# Altium integrated library Wurth_Elektronik_Passive_rev16a.IntLib: 1143 symbols (part 8 of 28)
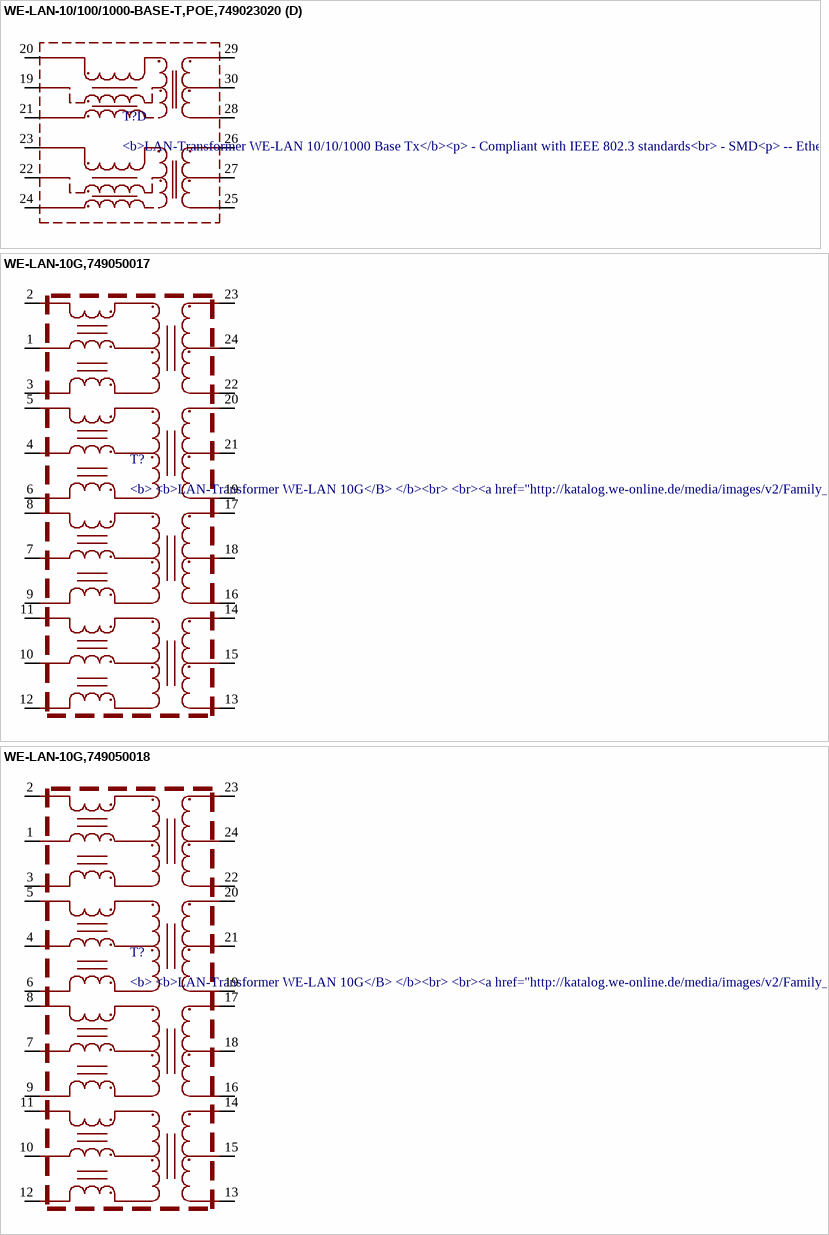
[diagram p65: symbols WE-LAN-10/100/1000-BASE-T,POE,749023020 to WE-LAN-10G,749050018]

## WE-LAN-10G,749050018
designator T?, comment <b> / <b>LAN-Transformer WE-LAN 10G</B> / </b><br> / <br><a href="http://katalog.we-online.de/media/images/v2/Family_WE-LAN.jpg" title="Enlarge picture"> / <img src="http://katalog.we-online.de/media/images/v2/Family_WE-LAN.jpg"  width="320"></a><p> / </b><br> / Details see: <a href="http://katalog.we-online.de/en/pbs/WE-LAN/749050018?m">http://katalog.we-online.de/en/pbs/WE-LAN/749050018?m</a><p> / <b><br> / <br> / 2015 (C) Würth Elektronik
footprint WE-LAN10G:0.99MM
pins: 1 TCT1, 2 TD1+, 3 TD1-, 4 TCT2, 5 TD2+, 6 TD2-, 7 TCT3, 8 TD3+, 9 TD3-, 10 TCT4, 11 TD4+, 12 TD4-, 13 MX4-, 14 MX4+, 15 MCT4, 16 MX3-, 17 MX3+, 18 MCT3, 19 MX2-, 20 MX2+, 21 MCT2, 22 MX1-, 23 MX1+, 24 MCT1

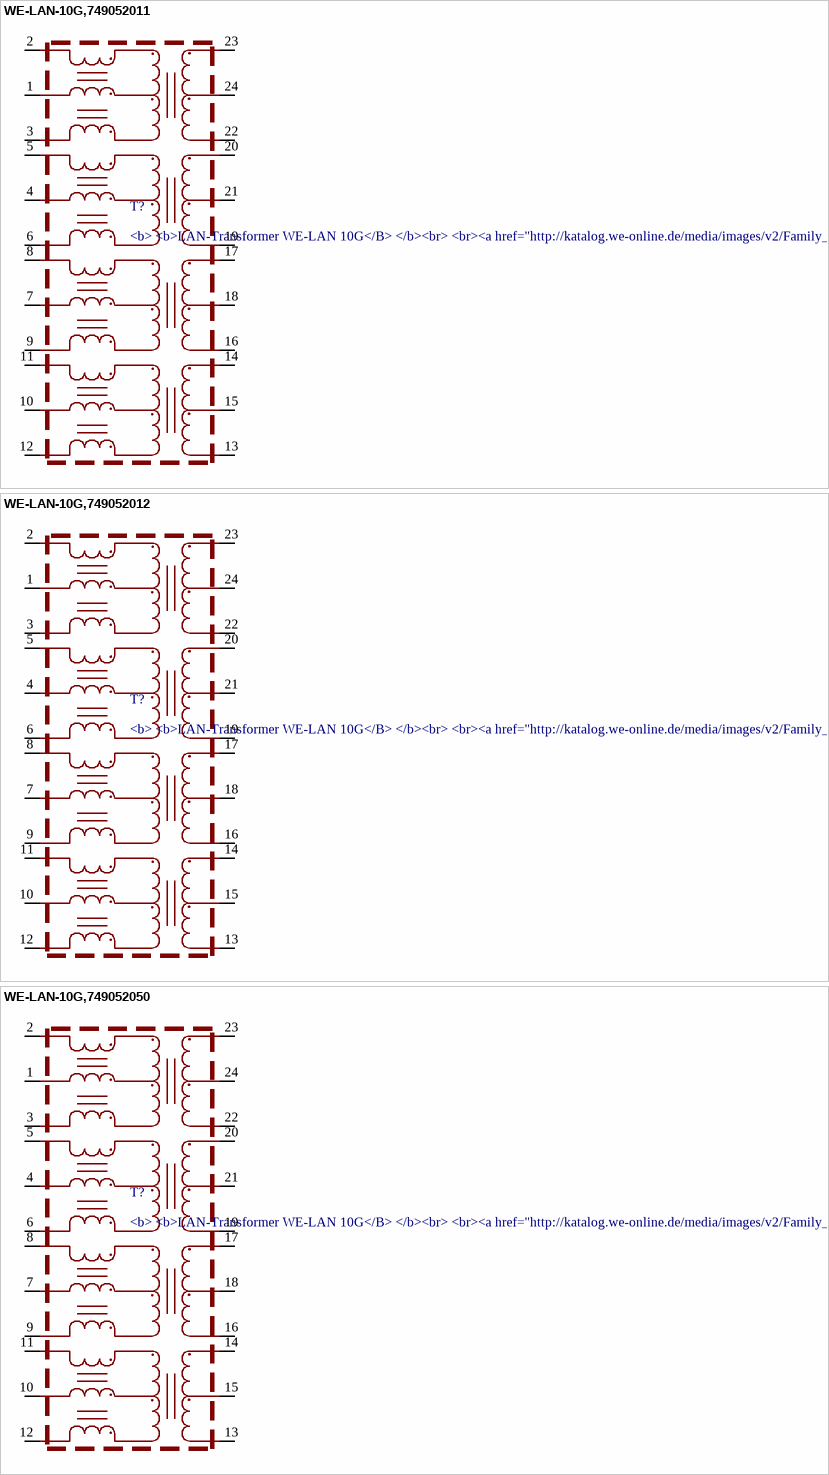
[diagram p19: symbols WE-LAN-10G,749052011 to WE-LAN-10G,749052050]

## WE-LAN-10G,749052011
designator T?, comment <b> / <b>LAN-Transformer WE-LAN 10G</B> / </b><br> / <br><a href="http://katalog.we-online.de/media/images/v2/Family_WE-LAN.jpg" title="Enlarge picture"> / <img src="http://katalog.we-online.de/media/images/v2/Family_WE-LAN.jpg"  width="320"></a><p> / </b><br> / Details see: <a href="http://katalog.we-online.de/en/pbs/WE-LAN/749052011?m">http://katalog.we-online.de/en/pbs/WE-LAN/749052011?m</a><p> / <b><br> / <br> / 2015 (C) Würth Elektronik
footprint WE-LAN10G1.27MM
pins: 1 TCT1, 2 TD1+, 3 TD1-, 4 TCT2, 5 TD2+, 6 TD2-, 7 TCT3, 8 TD3+, 9 TD3-, 10 TCT4, 11 TD4+, 12 TD4-, 13 MX4-, 14 MX4+, 15 MCT4, 16 MX3-, 17 MX3+, 18 MCT3, 19 MX2-, 20 MX2+, 21 MCT2, 22 MX1-, 23 MX1+, 24 MCT1

## WE-LAN-10G,749052012
designator T?, comment <b> / <b>LAN-Transformer WE-LAN 10G</B> / </b><br> / <br><a href="http://katalog.we-online.de/media/images/v2/Family_WE-LAN.jpg" title="Enlarge picture"> / <img src="http://katalog.we-online.de/media/images/v2/Family_WE-LAN.jpg"  width="320"></a><p> / </b><br> / Details see: <a href="http://katalog.we-online.de/en/pbs/WE-LAN/749052012?m">http://katalog.we-online.de/en/pbs/WE-LAN/749052012?m</a><p> / <b><br> / <br> / 2015 (C) Würth Elektronik
footprint WE-LAN10G:0.99MM
pins: 1 TCT1, 2 TD1+, 3 TD1-, 4 TCT2, 5 TD2+, 6 TD2-, 7 TCT3, 8 TD3+, 9 TD3-, 10 TCT4, 11 TD4+, 12 TD4-, 13 MX4-, 14 MX4+, 15 MCT4, 16 MX3-, 17 MX3+, 18 MCT3, 19 MX2-, 20 MX2+, 21 MCT2, 22 MX1-, 23 MX1+, 24 MCT1

## WE-LAN-10G,749052050
designator T?, comment <b> / <b>LAN-Transformer WE-LAN 10G</B> / </b><br> / <br><a href="http://katalog.we-online.de/media/images/v2/Family_WE-LAN.jpg" title="Enlarge picture"> / <img src="http://katalog.we-online.de/media/images/v2/Family_WE-LAN.jpg"  width="320"></a><p> / </b><br> / Details see: <a href="http://katalog.we-online.de/en/pbs/WE-LAN/749052050?m">http://katalog.we-online.de/en/pbs/WE-LAN/749052050?m</a><p> / <b><br> / <br> / 2015 (C) Würth Elektronik
footprint WE-LAN10G1.27MM
pins: 1 TCT1, 2 TD1+, 3 TD1-, 4 TCT2, 5 TD2+, 6 TD2-, 7 TCT3, 8 TD3+, 9 TD3-, 10 TCT4, 11 TD4+, 12 TD4-, 13 MX4-, 14 MX4+, 15 MCT4, 16 MX3-, 17 MX3+, 18 MCT3, 19 MX2-, 20 MX2+, 21 MCT2, 22 MX1-, 23 MX1+, 24 MCT1

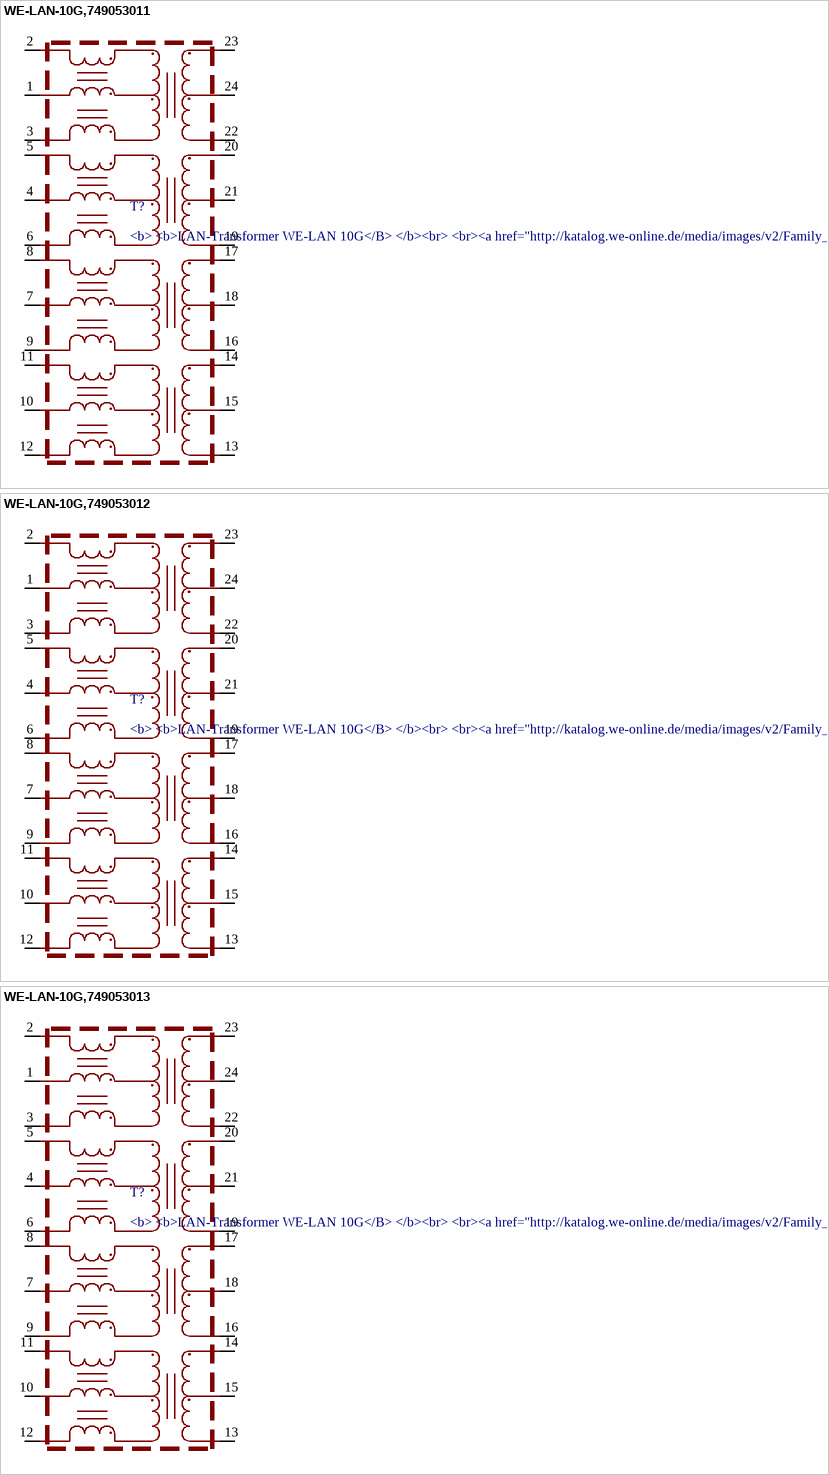
[diagram p20: symbols WE-LAN-10G,749053011 to WE-LAN-10G,749053013]

## WE-LAN-10G,749053011
designator T?, comment <b> / <b>LAN-Transformer WE-LAN 10G</B> / </b><br> / <br><a href="http://katalog.we-online.de/media/images/v2/Family_WE-LAN.jpg" title="Enlarge picture"> / <img src="http://katalog.we-online.de/media/images/v2/Family_WE-LAN.jpg"  width="320"></a><p> / </b><br> / Details see: <a href="http://katalog.we-online.de/en/pbs/WE-LAN/749053011?m">http://katalog.we-online.de/en/pbs/WE-LAN/749053011?m</a><p> / <b><br> / <br> / 2015 (C) Würth Elektronik
footprint WE-LAN10G:0.99MM
pins: 1 TCT1, 2 TD1+, 3 TD1-, 4 TCT2, 5 TD2+, 6 TD2-, 7 TCT3, 8 TD3+, 9 TD3-, 10 TCT4, 11 TD4+, 12 TD4-, 13 MX4-, 14 MX4+, 15 MCT4, 16 MX3-, 17 MX3+, 18 MCT3, 19 MX2-, 20 MX2+, 21 MCT2, 22 MX1-, 23 MX1+, 24 MCT1

## WE-LAN-10G,749053012
designator T?, comment <b> / <b>LAN-Transformer WE-LAN 10G</B> / </b><br> / <br><a href="http://katalog.we-online.de/media/images/v2/Family_WE-LAN.jpg" title="Enlarge picture"> / <img src="http://katalog.we-online.de/media/images/v2/Family_WE-LAN.jpg"  width="320"></a><p> / </b><br> / Details see: <a href="http://katalog.we-online.de/en/pbs/WE-LAN/749053012?m">http://katalog.we-online.de/en/pbs/WE-LAN/749053012?m</a><p> / <b><br> / <br> / 2015 (C) Würth Elektronik
footprint WE-LAN10G:0.99MM
pins: 1 TCT1, 2 TD1+, 3 TD1-, 4 TCT2, 5 TD2+, 6 TD2-, 7 TCT3, 8 TD3+, 9 TD3-, 10 TCT4, 11 TD4+, 12 TD4-, 13 MX4-, 14 MX4+, 15 MCT4, 16 MX3-, 17 MX3+, 18 MCT3, 19 MX2-, 20 MX2+, 21 MCT2, 22 MX1-, 23 MX1+, 24 MCT1

## WE-LAN-10G,749053013
designator T?, comment <b> / <b>LAN-Transformer WE-LAN 10G</B> / </b><br> / <br><a href="http://katalog.we-online.de/media/images/v2/Family_WE-LAN.jpg" title="Enlarge picture"> / <img src="http://katalog.we-online.de/media/images/v2/Family_WE-LAN.jpg"  width="320"></a><p> / </b><br> / Details see: <a href="http://katalog.we-online.de/en/pbs/WE-LAN/749053013?m">http://katalog.we-online.de/en/pbs/WE-LAN/749053013?m</a><p> / <b><br> / <br> / 2015 (C) Würth Elektronik
footprint WE-LAN10G:0.99MM
pins: 1 TCT1, 2 TD1+, 3 TD1-, 4 TCT2, 5 TD2+, 6 TD2-, 7 TCT3, 8 TD3+, 9 TD3-, 10 TCT4, 11 TD4+, 12 TD4-, 13 MX4-, 14 MX4+, 15 MCT4, 16 MX3-, 17 MX3+, 18 MCT3, 19 MX2-, 20 MX2+, 21 MCT2, 22 MX1-, 23 MX1+, 24 MCT1

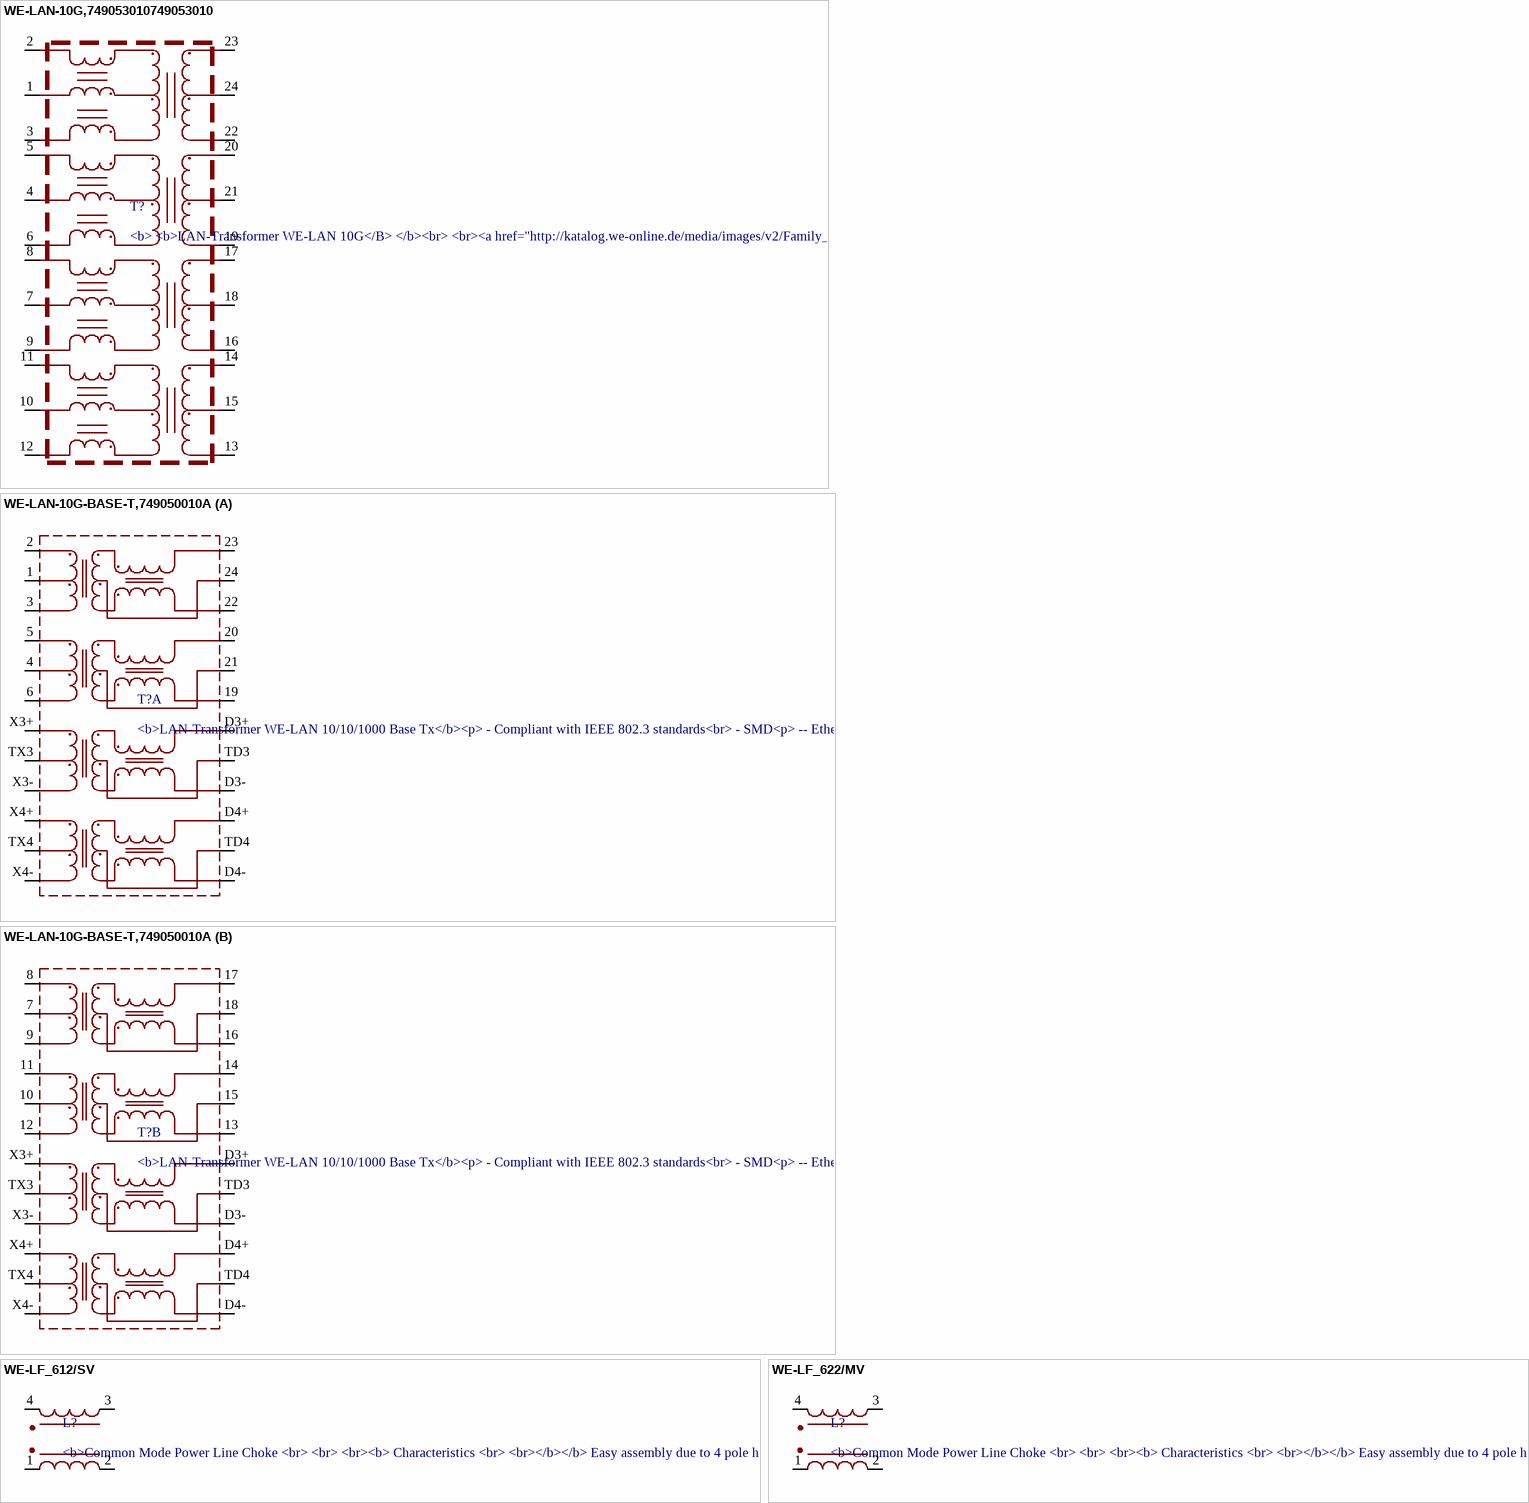
[diagram p21: symbols WE-LAN-10G,749053010749053010 to WE-LF_622/MV]

## WE-LAN-10G,749053010749053010
designator T?, comment <b> / <b>LAN-Transformer WE-LAN 10G</B> / </b><br> / <br><a href="http://katalog.we-online.de/media/images/v2/Family_WE-LAN.jpg" title="Enlarge picture"> / <img src="http://katalog.we-online.de/media/images/v2/Family_WE-LAN.jpg"  width="320"></a><p> / </b><br> / Details see: <a href="http://katalog.we-online.de/en/pbs/WE-LAN/749053010?m">http://katalog.we-online.de/en/pbs/WE-LAN/749053010?m</a><p> / <b><br> / <br> / 2015 (C) Würth Elektronik
footprint WE-LAN10G:0.99MM
pins: 1 TCT1, 2 TD1+, 3 TD1-, 4 TCT2, 5 TD2+, 6 TD2-, 7 TCT3, 8 TD3+, 9 TD3-, 10 TCT4, 11 TD4+, 12 TD4-, 13 MX4-, 14 MX4+, 15 MCT4, 16 MX3-, 17 MX3+, 18 MCT3, 19 MX2-, 20 MX2+, 21 MCT2, 22 MX1-, 23 MX1+, 24 MCT1

## WE-LAN-10G-BASE-T,749050010A
designator T?, comment <b>LAN-Transformer WE-LAN 10/10/1000 Base Tx</b><p> / - Compliant with IEEE 802.3 standards<br> / - SMD<p> / -- Ethernet<br> / -- Power over Ethernet<br> / -- 10 Gigabit Ethernet<br> / -- Compliant with most IC's for ethernet applications like Intel, AMD, Globespan and Realtek<br> / -- Hub, Router, Switch / <br><a href=http://katalog.we-online.de/media/images/eisos/UtLAN_pf2.jpg" title="Enlarge picture"> / <img src="http://katalog.we-online.de/media/images/eisos/UtLAN_pf2.jpg" width="320"></a><p> / Details see: <a href="http://katalog.we-online.de/en/pbs/WE-LAN/S/749050010A?">http://katalog.we-online.de/en/pbs/WE-LAN/S/749050010A?</a><p> / Updated by  Dan Xu 2014-07-08<br> / 2014 (C) Würth Elektronik
MANUFACTURER: Würth Elektronik eiSos GmbH; CREATED-BY: Christin Zierenner; COMPANY-URL: http://www.we-online.de; CREATED-DATE: June 2012; DATASHEET-URL: http://katalog.we-online.de/kataloge/eisos/media/pdf/749050010A.pdf
footprint 749050010A
part A pins: 1 TX1, 2 X1+, 3 X1-, 4 TX2, 5 X2+, 6 X2-, 19 D2-, 20 D2+, 21 TD2, 22 D1-, 23 D1+, 24 TD1, D3+, D3-, D4+, D4-, TD3, TD4, TX3, TX4, X3+, X3-, X4+, X4-
part B pins: 7 TX1, 8 X1+, 9 X1-, 10 TX2, 11 X2+, 12 X2-, 13 D2-, 14 D2+, 15 TD2, 16 D1-, 17 D1+, 18 TD1, D3+, D3-, D4+, D4-, TD3, TD4, TX3, TX4, X3+, X3-, X4+, X4-

## WE-LF_612/SV
designator L?, comment <b>Common Mode Power Line Choke / <br> / <br> / <br><b> Characteristics / <br> / <br></b></b> Easy assembly due to 4 pole housing / <br> / <br> Compact, small size / <br> / <br> 4 soldering pins for perfect mechanical decoupling / <br> / <br> Toroidal core choke with sector winding / <br> / <br> High interference suppression for common mode interferences in low and middle frequency ranges / <br> / <br> Low stray field / <br> / <br> Operating temperature: –25 ºC to +125 ºC / <br> / <br> Custom designs on request / <br> / <br> / <br><b> Applications / <br> / <br></b> Power line filter / <br> / <br> Power electronics / <br> / <br> SMPS / <br> / <br> Suppression of common mode noise / <br> / <br> / <br><a href=http://katalog.we-online.de/media/images/eisos/IndLF_pf2.jpg" title="Enlarge picture"> / <img src="http://katalog.we-online.de/media/images/eisos/IndLF_pf2.jpg" width="320"></a><p> / Details see: <a href="http://katalog.we-online.de/en/pbs/WE-LF?">http://katalog.we-online.de/en/pbs/WE-LF?</a><p> / Updated by  Dan Xu 2014-07-08<br> / 2014 (C) Wurth Elektronik
footprint WE-LF_612/SV
pins: 1 4, 2 3, 3 2, 4 1

## WE-LF_622/MV
designator L?, comment <b>Common Mode Power Line Choke / <br> / <br> / <br><b> Characteristics / <br> / <br></b></b> Easy assembly due to 4 pole housing / <br> / <br> Compact, small size / <br> / <br> 4 soldering pins for perfect mechanical decoupling / <br> / <br> Toroidal core choke with sector winding / <br> / <br> High interference suppression for common mode interferences in low and middle frequency ranges / <br> / <br> Low stray field / <br> / <br> Operating temperature: –25 ºC to +125 ºC / <br> / <br> Custom designs on request / <br> / <br> / <br><b> Applications / <br> / <br></b> Power line filter / <br> / <br> Power electronics / <br> / <br> SMPS / <br> / <br> Suppression of common mode noise / <br> / <br> / <br><a href=http://katalog.we-online.de/media/images/eisos/IndLF_pf2.jpg" title="Enlarge picture"> / <img src="http://katalog.we-online.de/media/images/eisos/IndLF_pf2.jpg" width="320"></a><p> / Details see: <a href="http://katalog.we-online.de/en/pbs/WE-LF?">http://katalog.we-online.de/en/pbs/WE-LF?</a><p> / Updated by  Dan Xu 2014-07-08<br> / 2014 (C) Wurth Elektronik
footprint WE-LF_622/MV
pins: 1 4, 2 3, 3 2, 4 1

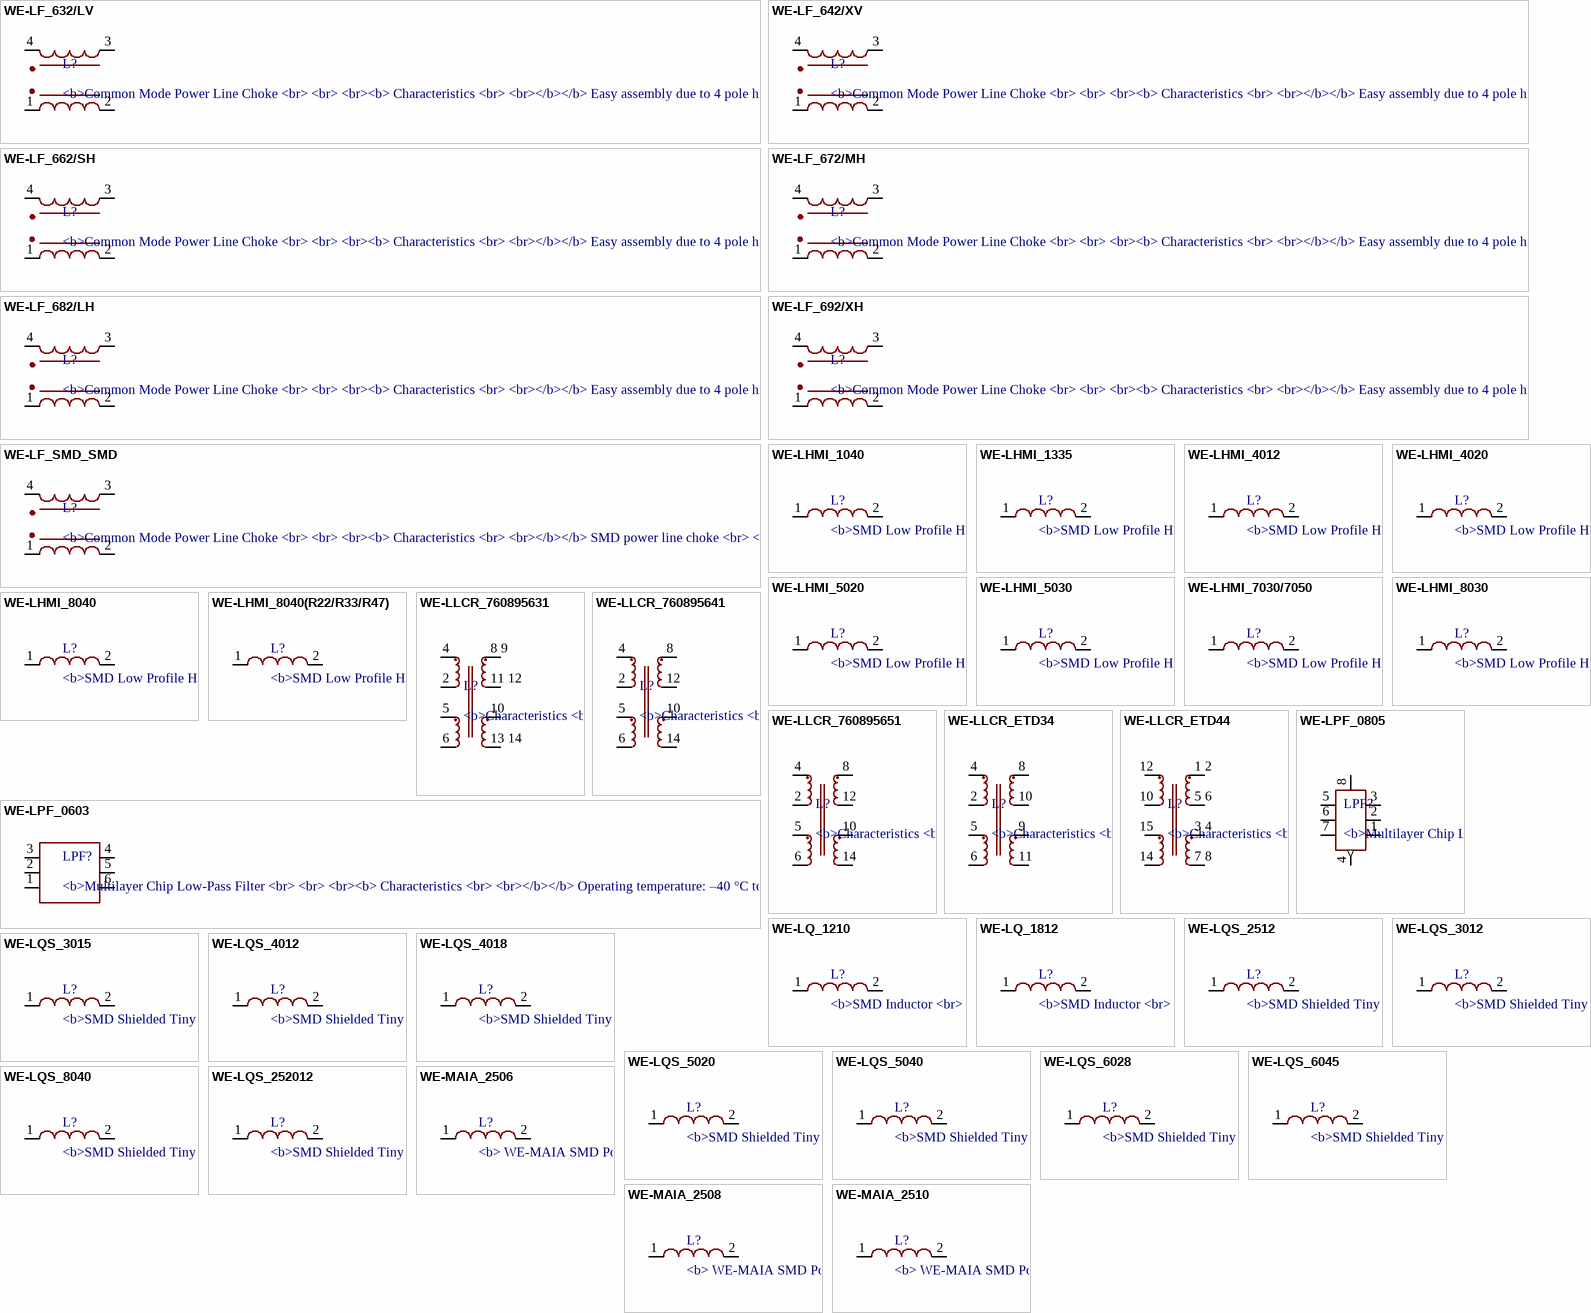
[diagram p22: symbols WE-LF_632/LV to WE-MAIA_2510]

## WE-LF_632/LV
designator L?, comment <b>Common Mode Power Line Choke / <br> / <br> / <br><b> Characteristics / <br> / <br></b></b> Easy assembly due to 4 pole housing / <br> / <br> Compact, small size / <br> / <br> 4 soldering pins for perfect mechanical decoupling / <br> / <br> Toroidal core choke with sector winding / <br> / <br> High interference suppression for common mode interferences in low and middle frequency ranges / <br> / <br> Low stray field / <br> / <br> Operating temperature: –25 ºC to +125 ºC / <br> / <br> Custom designs on request / <br> / <br> / <br><b> Applications / <br> / <br></b> Power line filter / <br> / <br> Power electronics / <br> / <br> SMPS / <br> / <br> Suppression of common mode noise / <br> / <br> / <br><a href=http://katalog.we-online.de/media/images/eisos/IndLF_pf2.jpg" title="Enlarge picture"> / <img src="http://katalog.we-online.de/media/images/eisos/IndLF_pf2.jpg" width="320"></a><p> / Details see: <a href="http://katalog.we-online.de/en/pbs/WE-LF?">http://katalog.we-online.de/en/pbs/WE-LF?</a><p> / Updated by  Dan Xu 2014-07-08<br> / 2014 (C) Wurth Elektronik
footprint WE-LF_632/LV
pins: 1 4, 2 3, 3 2, 4 1

## WE-LF_642/XV
designator L?, comment <b>Common Mode Power Line Choke / <br> / <br> / <br><b> Characteristics / <br> / <br></b></b> Easy assembly due to 4 pole housing / <br> / <br> Compact, small size / <br> / <br> 4 soldering pins for perfect mechanical decoupling / <br> / <br> Toroidal core choke with sector winding / <br> / <br> High interference suppression for common mode interferences in low and middle frequency ranges / <br> / <br> Low stray field / <br> / <br> Operating temperature: –25 ºC to +125 ºC / <br> / <br> Custom designs on request / <br> / <br> / <br><b> Applications / <br> / <br></b> Power line filter / <br> / <br> Power electronics / <br> / <br> SMPS / <br> / <br> Suppression of common mode noise / <br> / <br> / <br><a href=http://katalog.we-online.de/media/images/eisos/IndLF_pf2.jpg" title="Enlarge picture"> / <img src="http://katalog.we-online.de/media/images/eisos/IndLF_pf2.jpg" width="320"></a><p> / Details see: <a href="http://katalog.we-online.de/en/pbs/WE-LF?">http://katalog.we-online.de/en/pbs/WE-LF?</a><p> / Updated by  Dan Xu 2014-07-08<br> / 2014 (C) Wurth Elektronik
footprint WE-LF_642/XV
pins: 1 4, 2 3, 3 2, 4 1

## WE-LF_662/SH
designator L?, comment <b>Common Mode Power Line Choke / <br> / <br> / <br><b> Characteristics / <br> / <br></b></b> Easy assembly due to 4 pole housing / <br> / <br> Compact, small size / <br> / <br> 4 soldering pins for perfect mechanical decoupling / <br> / <br> Toroidal core choke with sector winding / <br> / <br> High interference suppression for common mode interferences in low and middle frequency ranges / <br> / <br> Low stray field / <br> / <br> Operating temperature: –25 ºC to +125 ºC / <br> / <br> Custom designs on request / <br> / <br> / <br><b> Applications / <br> / <br></b> Power line filter / <br> / <br> Power electronics / <br> / <br> SMPS / <br> / <br> Suppression of common mode noise / <br> / <br> / <br><a href=http://katalog.we-online.de/media/images/eisos/IndLF_pf2.jpg" title="Enlarge picture"> / <img src="http://katalog.we-online.de/media/images/eisos/IndLF_pf2.jpg" width="320"></a><p> / Details see: <a href="http://katalog.we-online.de/en/pbs/WE-LF?">http://katalog.we-online.de/en/pbs/WE-LF?</a><p> / Updated by  Dan Xu 2014-07-08<br> / 2014 (C) Wurth Elektronik
footprint WE-LF_662/SH
pins: 1 4, 2 3, 3 2, 4 1

## WE-LF_672/MH
designator L?, comment <b>Common Mode Power Line Choke / <br> / <br> / <br><b> Characteristics / <br> / <br></b></b> Easy assembly due to 4 pole housing / <br> / <br> Compact, small size / <br> / <br> 4 soldering pins for perfect mechanical decoupling / <br> / <br> Toroidal core choke with sector winding / <br> / <br> High interference suppression for common mode interferences in low and middle frequency ranges / <br> / <br> Low stray field / <br> / <br> Operating temperature: –25 ºC to +125 ºC / <br> / <br> Custom designs on request / <br> / <br> / <br><b> Applications / <br> / <br></b> Power line filter / <br> / <br> Power electronics / <br> / <br> SMPS / <br> / <br> Suppression of common mode noise / <br> / <br> / <br><a href=http://katalog.we-online.de/media/images/eisos/IndLF_pf2.jpg" title="Enlarge picture"> / <img src="http://katalog.we-online.de/media/images/eisos/IndLF_pf2.jpg" width="320"></a><p> / Details see: <a href="http://katalog.we-online.de/en/pbs/WE-LF?">http://katalog.we-online.de/en/pbs/WE-LF?</a><p> / Updated by  Dan Xu 2014-07-08<br> / 2014 (C) Wurth Elektronik
footprint WE-LF_672/MH
pins: 1 4, 2 3, 3 2, 4 1

## WE-LF_682/LH
designator L?, comment <b>Common Mode Power Line Choke / <br> / <br> / <br><b> Characteristics / <br> / <br></b></b> Easy assembly due to 4 pole housing / <br> / <br> Compact, small size / <br> / <br> 4 soldering pins for perfect mechanical decoupling / <br> / <br> Toroidal core choke with sector winding / <br> / <br> High interference suppression for common mode interferences in low and middle frequency ranges / <br> / <br> Low stray field / <br> / <br> Operating temperature: –25 ºC to +125 ºC / <br> / <br> Custom designs on request / <br> / <br> / <br><b> Applications / <br> / <br></b> Power line filter / <br> / <br> Power electronics / <br> / <br> SMPS / <br> / <br> Suppression of common mode noise / <br> / <br> / <br><a href=http://katalog.we-online.de/media/images/eisos/IndLF_pf2.jpg" title="Enlarge picture"> / <img src="http://katalog.we-online.de/media/images/eisos/IndLF_pf2.jpg" width="320"></a><p> / Details see: <a href="http://katalog.we-online.de/en/pbs/WE-LF?">http://katalog.we-online.de/en/pbs/WE-LF?</a><p> / Updated by  Dan Xu 2014-07-08<br> / 2014 (C) Wurth Elektronik
footprint WE-LF_682/LH
pins: 1 4, 2 3, 3 2, 4 1

## WE-LF_692/XH
designator L?, comment <b>Common Mode Power Line Choke / <br> / <br> / <br><b> Characteristics / <br> / <br></b></b> Easy assembly due to 4 pole housing / <br> / <br> Compact, small size / <br> / <br> 4 soldering pins for perfect mechanical decoupling / <br> / <br> Toroidal core choke with sector winding / <br> / <br> High interference suppression for common mode interferences in low and middle frequency ranges / <br> / <br> Low stray field / <br> / <br> Operating temperature: –25 ºC to +125 ºC / <br> / <br> Custom designs on request / <br> / <br> / <br><b> Applications / <br> / <br></b> Power line filter / <br> / <br> Power electronics / <br> / <br> SMPS / <br> / <br> Suppression of common mode noise / <br> / <br> / <br><a href=http://katalog.we-online.de/media/images/eisos/IndLF_pf2.jpg" title="Enlarge picture"> / <img src="http://katalog.we-online.de/media/images/eisos/IndLF_pf2.jpg" width="320"></a><p> / Details see: <a href="http://katalog.we-online.de/en/pbs/WE-LF?">http://katalog.we-online.de/en/pbs/WE-LF?</a><p> / Updated by  Dan Xu 2014-07-08<br> / 2014 (C) Wurth Elektronik
footprint WE-LF_692/XH
pins: 1 4, 2 3, 3 2, 4 1

## WE-LF_SMD_SMD
designator L?, comment <b>Common Mode Power Line Choke / <br> / <br> / <br><b> Characteristics / <br> / <br></b></b> SMD power line choke / <br> / <br> Compact size / <br> / <br> Toroidal core with sector winding / <br> / <br> High attenuation of common mode interferences in low and middle frequency range / <br> / <br> Operating temperature: –25 ºC to +125 ºC / <br> / <br> / <br><b> Applications / <br> / <br></b> Mains filter / <br> / <br> Power electronics / <br> / <br> SMPS / <br> / <br> / <br> / <br><a href=http://katalog.we-online.de/media/images/eisos/IndLF_SMD_pf2.jpg" title="Enlarge picture"> / <img src="http://katalog.we-online.de/media/images/eisos/IndLF_SMD_pf2.jpg" width="320"></a><p> / Details see: <a href="http://katalog.we-online.de/en/pbs/WE-LF_SMD?">http://katalog.we-online.de/en/pbs/WE-LF_SMD?</a><p> / Updated by  Dan Xu 2014-07-08<br> / 2014 (C) Wurth Elektronik
footprint WE-LF_SMD
pins: 1 4, 2 3, 3 2, 4 1

## WE-LHMI_1040
designator L?, comment <b>SMD Low Profile High Current Molded Inductor / <br> / <br> / <br><b> Characteristics / <br> / <br></b></b> Compact design / <br> / <br> Magnetically shielded / <br> / <br> High current capability / <br> / <br> Handles high transient current spikes / <br> / <br> No acoustic noise and no leakage field / <br> / <br> Frequency range up to 5 MHz / <br> / <br> Operating temperature: –40 °C to +125 °C / <br> / <Br> / <br><b>Applications / <br> / <br></b> DC/DC converters for high current power supplies / <br> / <br> DC/DC converters for Field Programmable Gate Array (FPGA) / <br> / <br> POL converters / <br> / <br> Portable power like PDA, digital cameras / <br> / <br> Mainboards/graphic cards / <br> / <br> Battery powered devices / <br> / <br> / <br><a href=http://katalog.we-online.de/media/images/eisos/IndLHMI_pf2.jpg" title="Enlarge picture"> / <img src="http://katalog.we-online.de/media/images/eisos/IndLHMI_pf2.jpg" width="320"></a><p> / Details see: <a href="http://katalog.we-online.de/en/pbs/WE-LHMI?">http://katalog.we-online.de/en/pbs/WE-LHMI?</a><p> / Updated by  Dan Xu 2014-07-08<br> / 2014 (C) Wurth Elektronik
footprint WE-LHMI_1040
pins: 1, 2

## WE-LHMI_1335
designator L?, comment <b>SMD Low Profile High Current Molded Inductor / <br> / <br> / <br><b> Characteristics / <br> / <br></b></b> Compact design / <br> / <br> Magnetically shielded / <br> / <br> High current capability / <br> / <br> Handles high transient current spikes / <br> / <br> No acoustic noise and no leakage field / <br> / <br> Frequency range up to 5 MHz / <br> / <br> Operating temperature: –40 °C to +125 °C / <br> / <Br> / <br><b>Applications / <br> / <br></b> DC/DC converters for high current power supplies / <br> / <br> DC/DC converters for Field Programmable Gate Array (FPGA) / <br> / <br> POL converters / <br> / <br> Portable power like PDA, digital cameras / <br> / <br> Mainboards/graphic cards / <br> / <br> Battery powered devices / <br> / <br> / <br><a href=http://katalog.we-online.de/media/images/eisos/IndLHMI_pf2.jpg" title="Enlarge picture"> / <img src="http://katalog.we-online.de/media/images/eisos/IndLHMI_pf2.jpg" width="320"></a><p> / Details see: <a href="http://katalog.we-online.de/en/pbs/WE-LHMI?">http://katalog.we-online.de/en/pbs/WE-LHMI?</a><p> / Updated by  Dan Xu 2014-07-08<br> / 2014 (C) Wurth Elektronik
footprint WE-LHMI_1335
pins: 1, 2

## WE-LHMI_4012
designator L?, comment <b>SMD Low Profile High Current Molded Inductor / <br> / <br> / <br><b> Characteristics / <br> / <br></b></b> Compact design / <br> / <br> Magnetically shielded / <br> / <br> High current capability / <br> / <br> Handles high transient current spikes / <br> / <br> No acoustic noise and no leakage field / <br> / <br> Frequency range up to 5 MHz / <br> / <br> Operating temperature: –40 °C to +125 °C / <br> / <Br> / <br><b>Applications / <br> / <br></b> DC/DC converters for high current power supplies / <br> / <br> DC/DC converters for Field Programmable Gate Array (FPGA) / <br> / <br> POL converters / <br> / <br> Portable power like PDA, digital cameras / <br> / <br> Mainboards/graphic cards / <br> / <br> Battery powered devices / <br> / <br> / <br><a href=http://katalog.we-online.de/media/images/eisos/IndLHMI_pf2.jpg" title="Enlarge picture"> / <img src="http://katalog.we-online.de/media/images/eisos/IndLHMI_pf2.jpg" width="320"></a><p> / Details see: <a href="http://katalog.we-online.de/en/pbs/WE-LHMI?">http://katalog.we-online.de/en/pbs/WE-LHMI?</a><p> / Updated by  Dan Xu 2014-07-08<br> / 2014 (C) Wurth Elektronik
footprint WE-LHMI_4012
pins: 1, 2

## WE-LHMI_4020
designator L?, comment <b>SMD Low Profile High Current Molded Inductor / <br> / <br> / <br><b> Characteristics / <br> / <br></b></b> Compact design / <br> / <br> Magnetically shielded / <br> / <br> High current capability / <br> / <br> Handles high transient current spikes / <br> / <br> No acoustic noise and no leakage field / <br> / <br> Frequency range up to 5 MHz / <br> / <br> Operating temperature: –40 °C to +125 °C / <br> / <Br> / <br><b>Applications / <br> / <br></b> DC/DC converters for high current power supplies / <br> / <br> DC/DC converters for Field Programmable Gate Array (FPGA) / <br> / <br> POL converters / <br> / <br> Portable power like PDA, digital cameras / <br> / <br> Mainboards/graphic cards / <br> / <br> Battery powered devices / <br> / <br> / <br><a href=http://katalog.we-online.de/media/images/eisos/IndLHMI_pf2.jpg" title="Enlarge picture"> / <img src="http://katalog.we-online.de/media/images/eisos/IndLHMI_pf2.jpg" width="320"></a><p> / Details see: <a href="http://katalog.we-online.de/en/pbs/WE-LHMI?">http://katalog.we-online.de/en/pbs/WE-LHMI?</a><p> / Updated by  Dan Xu 2014-07-08<br> / 2014 (C) Wurth Elektronik
footprint WE-LHMI_4020
pins: 1, 2

## WE-LHMI_5020
designator L?, comment <b>SMD Low Profile High Current Molded Inductor / <br> / <br> / <br><b> Characteristics / <br> / <br></b></b> Compact design / <br> / <br> Magnetically shielded / <br> / <br> High current capability / <br> / <br> Handles high transient current spikes / <br> / <br> No acoustic noise and no leakage field / <br> / <br> Frequency range up to 5 MHz / <br> / <br> Operating temperature: –40 °C to +125 °C / <br> / <Br> / <br><b>Applications / <br> / <br></b> DC/DC converters for high current power supplies / <br> / <br> DC/DC converters for Field Programmable Gate Array (FPGA) / <br> / <br> POL converters / <br> / <br> Portable power like PDA, digital cameras / <br> / <br> Mainboards/graphic cards / <br> / <br> Battery powered devices / <br> / <br> / <br><a href=http://katalog.we-online.de/media/images/eisos/IndLHMI_pf2.jpg" title="Enlarge picture"> / <img src="http://katalog.we-online.de/media/images/eisos/IndLHMI_pf2.jpg" width="320"></a><p> / Details see: <a href="http://katalog.we-online.de/en/pbs/WE-LHMI?">http://katalog.we-online.de/en/pbs/WE-LHMI?</a><p> / Updated by  Dan Xu 2014-07-08<br> / 2014 (C) Wurth Elektronik
footprint WE-LHMI_5020
pins: 1, 2

## WE-LHMI_5030
designator L?, comment <b>SMD Low Profile High Current Molded Inductor / <br> / <br> / <br><b> Characteristics / <br> / <br></b></b> Compact design / <br> / <br> Magnetically shielded / <br> / <br> High current capability / <br> / <br> Handles high transient current spikes / <br> / <br> No acoustic noise and no leakage field / <br> / <br> Frequency range up to 5 MHz / <br> / <br> Operating temperature: –40 °C to +125 °C / <br> / <Br> / <br><b>Applications / <br> / <br></b> DC/DC converters for high current power supplies / <br> / <br> DC/DC converters for Field Programmable Gate Array (FPGA) / <br> / <br> POL converters / <br> / <br> Portable power like PDA, digital cameras / <br> / <br> Mainboards/graphic cards / <br> / <br> Battery powered devices / <br> / <br> / <br><a href=http://katalog.we-online.de/media/images/eisos/IndLHMI_pf2.jpg" title="Enlarge picture"> / <img src="http://katalog.we-online.de/media/images/eisos/IndLHMI_pf2.jpg" width="320"></a><p> / Details see: <a href="http://katalog.we-online.de/en/pbs/WE-LHMI?">http://katalog.we-online.de/en/pbs/WE-LHMI?</a><p> / Updated by  Dan Xu 2014-07-08<br> / 2014 (C) Wurth Elektronik
footprint WE-LHMI_5030
pins: 1, 2

## WE-LHMI_7030/7050
designator L?, comment <b>SMD Low Profile High Current Molded Inductor / <br> / <br> / <br><b> Characteristics / <br> / <br></b></b> Compact design / <br> / <br> Magnetically shielded / <br> / <br> High current capability / <br> / <br> Handles high transient current spikes / <br> / <br> No acoustic noise and no leakage field / <br> / <br> Frequency range up to 5 MHz / <br> / <br> Operating temperature: –40 °C to +125 °C / <br> / <Br> / <br><b>Applications / <br> / <br></b> DC/DC converters for high current power supplies / <br> / <br> DC/DC converters for Field Programmable Gate Array (FPGA) / <br> / <br> POL converters / <br> / <br> Portable power like PDA, digital cameras / <br> / <br> Mainboards/graphic cards / <br> / <br> Battery powered devices / <br> / <br> / <br><a href=http://katalog.we-online.de/media/images/eisos/IndLHMI_pf2.jpg" title="Enlarge picture"> / <img src="http://katalog.we-online.de/media/images/eisos/IndLHMI_pf2.jpg" width="320"></a><p> / Details see: <a href="http://katalog.we-online.de/en/pbs/WE-LHMI?">http://katalog.we-online.de/en/pbs/WE-LHMI?</a><p> / Updated by  Dan Xu 2014-07-08<br> / 2014 (C) Wurth Elektronik
footprint WE-LHMI_7030/7050
pins: 1, 2

## WE-LHMI_8030
designator L?, comment <b>SMD Low Profile High Current Molded Inductor / <br> / <br> / <br><b> Characteristics / <br> / <br></b></b> Compact design / <br> / <br> Magnetically shielded / <br> / <br> High current capability / <br> / <br> Handles high transient current spikes / <br> / <br> No acoustic noise and no leakage field / <br> / <br> Frequency range up to 5 MHz / <br> / <br> Operating temperature: –40 °C to +125 °C / <br> / <Br> / <br><b>Applications / <br> / <br></b> DC/DC converters for high current power supplies / <br> / <br> DC/DC converters for Field Programmable Gate Array (FPGA) / <br> / <br> POL converters / <br> / <br> Portable power like PDA, digital cameras / <br> / <br> Mainboards/graphic cards / <br> / <br> Battery powered devices / <br> / <br> / <br><a href=http://katalog.we-online.de/media/images/eisos/IndLHMI_pf2.jpg" title="Enlarge picture"> / <img src="http://katalog.we-online.de/media/images/eisos/IndLHMI_pf2.jpg" width="320"></a><p> / Details see: <a href="http://katalog.we-online.de/en/pbs/WE-LHMI?">http://katalog.we-online.de/en/pbs/WE-LHMI?</a><p> / Updated by  Dan Xu 2014-07-08<br> / 2014 (C) Wurth Elektronik
footprint WE-LHMI_8030
pins: 1, 2

## WE-LHMI_8040
designator L?, comment <b>SMD Low Profile High Current Molded Inductor / <br> / <br> / <br><b> Characteristics / <br> / <br></b></b> Compact design / <br> / <br> Magnetically shielded / <br> / <br> High current capability / <br> / <br> Handles high transient current spikes / <br> / <br> No acoustic noise and no leakage field / <br> / <br> Frequency range up to 5 MHz / <br> / <br> Operating temperature: –40 °C to +125 °C / <br> / <Br> / <br><b>Applications / <br> / <br></b> DC/DC converters for high current power supplies / <br> / <br> DC/DC converters for Field Programmable Gate Array (FPGA) / <br> / <br> POL converters / <br> / <br> Portable power like PDA, digital cameras / <br> / <br> Mainboards/graphic cards / <br> / <br> Battery powered devices / <br> / <br> / <br><a href=http://katalog.we-online.de/media/images/eisos/IndLHMI_pf2.jpg" title="Enlarge picture"> / <img src="http://katalog.we-online.de/media/images/eisos/IndLHMI_pf2.jpg" width="320"></a><p> / Details see: <a href="http://katalog.we-online.de/en/pbs/WE-LHMI?">http://katalog.we-online.de/en/pbs/WE-LHMI?</a><p> / Updated by  Dan Xu 2014-07-08<br> / 2014 (C) Wurth Elektronik
footprint WE-LHMI_8040
pins: 1, 2

## WE-LHMI_8040(R22/R33/R47)
designator L?, comment <b>SMD Low Profile High Current Molded Inductor / <br> / <br> / <br><b> Characteristics / <br> / <br></b></b> Compact design / <br> / <br> Magnetically shielded / <br> / <br> High current capability / <br> / <br> Handles high transient current spikes / <br> / <br> No acoustic noise and no leakage field / <br> / <br> Frequency range up to 5 MHz / <br> / <br> Operating temperature: –40 °C to +125 °C / <br> / <Br> / <br><b>Applications / <br> / <br></b> DC/DC converters for high current power supplies / <br> / <br> DC/DC converters for Field Programmable Gate Array (FPGA) / <br> / <br> POL converters / <br> / <br> Portable power like PDA, digital cameras / <br> / <br> Mainboards/graphic cards / <br> / <br> Battery powered devices / <br> / <br> / <br><a href=http://katalog.we-online.de/media/images/eisos/IndLHMI_pf2.jpg" title="Enlarge picture"> / <img src="http://katalog.we-online.de/media/images/eisos/IndLHMI_pf2.jpg" width="320"></a><p> / Details see: <a href="http://katalog.we-online.de/en/pbs/WE-LHMI?">http://katalog.we-online.de/en/pbs/WE-LHMI?</a><p> / Updated by  Dan Xu 2014-07-08<br> / 2014 (C) Wurth Elektronik
footprint WE-LHMI_8040_R22/R33/R47
pins: 1, 2

## WE-LLCR_760895631
designator L?, comment <b>Characteristics / <br> / <br> / <br><b> Characteristics / <br> / <br></b></b> Transformer for high efficiency power supply / <br> / <br> Input voltage 360–400 VDC / <br> / <br> Switching frequency 70–120 kHz / <br> / <br> Output power 150 W–250 W / <br> / <br> Testing voltage 4 kVAC / <br> / <br> Litz wire for low eddy current losses / <br> / <br> Defined leakage inductance for use without additional resonant inductor / <br> / <br> / <br><b> Applications / <br> / <br></b> Power supplies for PC, netbook, LED lighting and other power supplies / <br> / <br> High efficient resonant converters / <br> / <br> / <br> / <br><a href="http://katalog.we-online.de/media/images/eisos/UtLLCR_pf2.jpg" title="Enlarge picture"> / <img src="http://katalog.we-online.de/media/images/eisos/UtLLCR_pf2.jpg" width="320"></a><p> / Details see: <a href="http://katalog.we-online.de/en/pbs/WE-LLCR?">http://katalog.we-online.de/en/pbs/WE-LLCR?</a><p> / Updated  by  Dan Xu 2014-07-07<br> / 2014 (C) Wurth Elektronik
footprint WE-LLCR_ETD39
pins: 2 8, 4 1, 5 7, 6, 8 9 2, 10 4, 11 12 3, 13 14 5

## WE-LLCR_760895641
designator L?, comment <b>Characteristics / <br> / <br> / <br><b> Characteristics / <br> / <br></b></b> Transformer for high efficiency power supply / <br> / <br> Input voltage 360–400 VDC / <br> / <br> Switching frequency 70–120 kHz / <br> / <br> Output power 150 W–250 W / <br> / <br> Testing voltage 4 kVAC / <br> / <br> Litz wire for low eddy current losses / <br> / <br> Defined leakage inductance for use without additional resonant inductor / <br> / <br> / <br><b> Applications / <br> / <br></b> Power supplies for PC, netbook, LED lighting and other power supplies / <br> / <br> High efficient resonant converters / <br> / <br> / <br> / <br><a href="http://katalog.we-online.de/media/images/eisos/UtLLCR_pf2.jpg" title="Enlarge picture"> / <img src="http://katalog.we-online.de/media/images/eisos/UtLLCR_pf2.jpg" width="320"></a><p> / Details see: <a href="http://katalog.we-online.de/en/pbs/WE-LLCR?">http://katalog.we-online.de/en/pbs/WE-LLCR?</a><p> / Updated  by  Dan Xu 2014-07-07<br> / 2014 (C) Wurth Elektronik
footprint WE-LLCR_ETD39
pins: 2 8, 4 1, 5 7, 6, 8 2, 10 4, 12 3, 14 5

## WE-LLCR_760895651
designator L?, comment <b>Characteristics / <br> / <br> / <br><b> Characteristics / <br> / <br></b></b> Transformer for high efficiency power supply / <br> / <br> Input voltage 360–400 VDC / <br> / <br> Switching frequency 70–120 kHz / <br> / <br> Output power 150 W–250 W / <br> / <br> Testing voltage 4 kVAC / <br> / <br> Litz wire for low eddy current losses / <br> / <br> Defined leakage inductance for use without additional resonant inductor / <br> / <br> / <br><b> Applications / <br> / <br></b> Power supplies for PC, netbook, LED lighting and other power supplies / <br> / <br> High efficient resonant converters / <br> / <br> / <br> / <br><a href="http://katalog.we-online.de/media/images/eisos/UtLLCR_pf2.jpg" title="Enlarge picture"> / <img src="http://katalog.we-online.de/media/images/eisos/UtLLCR_pf2.jpg" width="320"></a><p> / Details see: <a href="http://katalog.we-online.de/en/pbs/WE-LLCR?">http://katalog.we-online.de/en/pbs/WE-LLCR?</a><p> / Updated  by  Dan Xu 2014-07-07<br> / 2014 (C) Wurth Elektronik
footprint WE-LLCR_ETD39
pins: 2 8, 4 1, 5 7, 6, 8 2, 10 4, 12 3, 14 5

## WE-LLCR_ETD34
designator L?, comment <b>Characteristics / <br> / <br> / <br><b> Characteristics / <br> / <br></b></b> Transformer for high efficiency power supply / <br> / <br> Input voltage 360–400 VDC / <br> / <br> Switching frequency 70–120 kHz / <br> / <br> Output power 150 W–250 W / <br> / <br> Testing voltage 4 kVAC / <br> / <br> Litz wire for low eddy current losses / <br> / <br> Defined leakage inductance for use without additional resonant inductor / <br> / <br> / <br><b> Applications / <br> / <br></b> Power supplies for PC, netbook, LED lighting and other power supplies / <br> / <br> High efficient resonant converters / <br> / <br> / <br> / <br><a href="http://katalog.we-online.de/media/images/eisos/UtLLCR_pf2.jpg" title="Enlarge picture"> / <img src="http://katalog.we-online.de/media/images/eisos/UtLLCR_pf2.jpg" width="320"></a><p> / Details see: <a href="http://katalog.we-online.de/en/pbs/WE-LLCR?">http://katalog.we-online.de/en/pbs/WE-LLCR?</a><p> / Updated  by  Dan Xu 2014-07-07<br> / 2014 (C) Wurth Elektronik
footprint WE-LLCR_ETD34
pins: 2 8, 4 1, 5 7, 6, 8 2, 9 4, 10 3, 11 5

## WE-LLCR_ETD44
designator L?, comment <b>Characteristics / <br> / <br> / <br><b> Characteristics / <br> / <br></b></b> Transformer for high efficiency power supply / <br> / <br> Input voltage 360–400 VDC / <br> / <br> Switching frequency 70–120 kHz / <br> / <br> Output power 150 W–250 W / <br> / <br> Testing voltage 4 kVAC / <br> / <br> Litz wire for low eddy current losses / <br> / <br> Defined leakage inductance for use without additional resonant inductor / <br> / <br> / <br><b> Applications / <br> / <br></b> Power supplies for PC, netbook, LED lighting and other power supplies / <br> / <br> High efficient resonant converters / <br> / <br> / <br> / <br><a href="http://katalog.we-online.de/media/images/eisos/UtLLCR_pf2.jpg" title="Enlarge picture"> / <img src="http://katalog.we-online.de/media/images/eisos/UtLLCR_pf2.jpg" width="320"></a><p> / Details see: <a href="http://katalog.we-online.de/en/pbs/WE-LLCR?">http://katalog.we-online.de/en/pbs/WE-LLCR?</a><p> / Updated  by  Dan Xu 2014-07-07<br> / 2014 (C) Wurth Elektronik
footprint WE-LLCR_ETD44
pins: 1 2 2, 3 4 4, 5 6 3, 7 8 5, 10 8, 12 1, 14 6, 15 7

## WE-LPF_0603
designator LPF?, comment <b>Multilayer Chip Low-Pass Filter / <br> / <br> / <br><b> Characteristics / <br> / <br></b></b> Operating temperature: –40 °C to +85 °C / <br> / <br> Power capacity up to 3 W / <br> / <br> Low insertion loss and high attenuation in the stop-band / <br> / <br> / <br><b>Applications / <br> / <br></b> RF applications / <br> / <br> Wireless communication systems like DECT, PACS, PHS, GSM, WLAN, Bluetooth … / <br> / <br> / <br><a href="http://katalog.we-online.de/media/images/eisos/RfLPF_pf2.jpg" title="Enlarge picture"> / <img src="http://katalog.we-online.de/media/images/eisos/RfLPF_pf2.jpg" width="320"></a><p> / Details see: <a href="http://katalog.we-online.de/en/pbs/WE-LPF?">http://katalog.we-online.de/en/pbs/WE-LPF?</a><p> / Updated  by  Dan Xu 2014-07-08<br> / 2014 (C) Wurth Elektronik
footprint WE-LPF_0603
pins: 1, 2, 3, 4, 5, 6

## WE-LPF_0805
designator LPF?, comment <b>Multilayer Chip Low-Pass Filter / <br> / <br> / <br><b> Characteristics / <br> / <br></b></b> Operating temperature: –40 °C to +85 °C / <br> / <br> Power capacity up to 3 W / <br> / <br> Low insertion loss and high attenuation in the stop-band / <br> / <br> / <br><b>Applications / <br> / <br></b> RF applications / <br> / <br> Wireless communication systems like DECT, PACS, PHS, GSM, WLAN, Bluetooth … / <br> / <br> / <br><a href="http://katalog.we-online.de/media/images/eisos/RfLPF_pf2.jpg" title="Enlarge picture"> / <img src="http://katalog.we-online.de/media/images/eisos/RfLPF_pf2.jpg" width="320"></a><p> / Details see: <a href="http://katalog.we-online.de/en/pbs/WE-LPF?">http://katalog.we-online.de/en/pbs/WE-LPF?</a><p> / Updated  by  Dan Xu 2014-07-08<br> / 2014 (C) Wurth Elektronik
footprint WE-LPF_0805
pins: 1 GND (power), 2 NC, 3 GND (power), 4 OUT (out), 5 GND (power), 6 NC, 7 GND (power), 8 IN

## WE-LQ_1210
designator L?, comment <b>SMD Inductor / <br> / <br> / <br><b> Characteristics / <br> / <br></b></b> Miniature chip inductor wound on a special ferrite core / <br> / <br> Small inductances for compact circuits / <br> / <br> High Q at high frequencies / <br> / <br> Low DC-resistance / <br> / <br> Operating temperature: –40 ºC to +125 ºC / <br> / <br> / <br><b> Applications / <br> / <br></b>  Low power DC/DC-converters from Linear Technology, National Semiconductor, Texas Instruments, Fairchild Semiconductor, ON Semiconductor, STMicroelectronics, Maxim, MPS, Semtech, Exar, Analogic Tech, Diodes and Cologne Chip / <br> / <br> EMI-Filtering / <br> / <br> RF-circuits / <br> / <br> / <br> / <br><a href="http://katalog.we-online.de/media/images/eisos/IndLQ_pf2.jpg" title="Enlarge picture"> / <img src="http://katalog.we-online.de/media/images/eisos/IndLQ_pf2.jpg" width="320"></a><p> / Details see: <a href="http://katalog.we-online.de/en/pbs/WE-LQ?">http://katalog.we-online.de/en/pbs/WE-LQ?</a><p> / Updated  by  Dan Xu 2014-07-08<br> / 2014 (C) Wurth Elektronik
footprint WE-LQ_M
pins: 1, 2

## WE-LQ_1812
designator L?, comment <b>SMD Inductor / <br> / <br> / <br><b> Characteristics / <br> / <br></b></b> Miniature chip inductor wound on a special ferrite core / <br> / <br> Small inductances for compact circuits / <br> / <br> High Q at high frequencies / <br> / <br> Low DC-resistance / <br> / <br> Operating temperature: –40 ºC to +125 ºC / <br> / <br> / <br><b> Applications / <br> / <br></b>  Low power DC/DC-converters from Linear Technology, National Semiconductor, Texas Instruments, Fairchild Semiconductor, ON Semiconductor, STMicroelectronics, Maxim, MPS, Semtech, Exar, Analogic Tech, Diodes and Cologne Chip / <br> / <br> EMI-Filtering / <br> / <br> RF-circuits / <br> / <br> / <br> / <br><a href="http://katalog.we-online.de/media/images/eisos/IndLQ_pf2.jpg" title="Enlarge picture"> / <img src="http://katalog.we-online.de/media/images/eisos/IndLQ_pf2.jpg" width="320"></a><p> / Details see: <a href="http://katalog.we-online.de/en/pbs/WE-LQ?">http://katalog.we-online.de/en/pbs/WE-LQ?</a><p> / Updated  by  Dan Xu 2014-07-08<br> / 2014 (C) Wurth Elektronik
footprint WE-LQ_L
pins: 1, 2

## WE-LQS_2512
designator L?, comment <b>SMD Shielded Tiny Power Inductor / <br> / <br> / <br><b> Characteristics / <br> / <br></b></b> Tiny Power Inductor design / <br> / <br> 1.7 times more current in comparison with unshielded versions / <br> / <br> Robust design & high durability / <br> / <br> Low RDC / <br> / <br> Magnetically shielded with magnetic glue reducing buzz noise in ultra-low levels / <br> / <br> Operating Temperature: –40 °C to +125 °C / <br> / <br> / <br><b> Applications / <br> / <br></b> Integrated DC/DC Converters / <br> / <br> Switching controllers which required high efficiency / <br> / <br> Portable power (Smartphones, digital cameras, Tablets, etc.) / <br> / <br> Embedded laptops and PCs / <br> / <br> Big sizes (5040, 60xx, 8040) used for shock-proof circuits / <br> / <br> / <br> / <br><a href="http://katalog.we-online.de/media/images/eisos/IndLQS_pf2.jpg" title="Enlarge picture"> / <img src="http://katalog.we-online.de/media/thumbs2/eisos/thb_IndLQS_pf2.jpg" width="320"></a><p> / Details see: <a href="http://katalog.we-online.de/en/pbs/WE-LQS">http://katalog.we-online.de/en/pbs/WE-LQS</a><p> / Created  by  Dan Xu 2014-05-21<br> / 2014 (C) Wurth Elektronik
footprint WE-LQS_2512
pins: 1, 2

## WE-LQS_3012
designator L?, comment <b>SMD Shielded Tiny Power Inductor / <br> / <br> / <br><b> Characteristics / <br> / <br></b></b> Tiny Power Inductor design / <br> / <br> 1.7 times more current in comparison with unshielded versions / <br> / <br> Robust design & high durability / <br> / <br> Low RDC / <br> / <br> Magnetically shielded with magnetic glue reducing buzz noise in ultra-low levels / <br> / <br> Operating Temperature: –40 °C to +125 °C / <br> / <br> / <br><b> Applications / <br> / <br></b> Integrated DC/DC Converters / <br> / <br> Switching controllers which required high efficiency / <br> / <br> Portable power (Smartphones, digital cameras, Tablets, etc.) / <br> / <br> Embedded laptops and PCs / <br> / <br> Big sizes (5040, 60xx, 8040) used for shock-proof circuits / <br> / <br> / <br> / <br><a href="http://katalog.we-online.de/media/images/eisos/IndLQS_pf2.jpg" title="Enlarge picture"> / <img src="http://katalog.we-online.de/media/thumbs2/eisos/thb_IndLQS_pf2.jpg" width="320"></a><p> / Details see: <a href="http://katalog.we-online.de/en/pbs/WE-LQS">http://katalog.we-online.de/en/pbs/WE-LQS</a><p> / Created  by  Dan Xu 2014-05-21<br> / 2014 (C) Wurth Elektronik
footprint WE-LQS_3012
pins: 1, 2

## WE-LQS_3015
designator L?, comment <b>SMD Shielded Tiny Power Inductor / <br> / <br> / <br><b> Characteristics / <br> / <br></b></b> Tiny Power Inductor design / <br> / <br> 1.7 times more current in comparison with unshielded versions / <br> / <br> Robust design & high durability / <br> / <br> Low RDC / <br> / <br> Magnetically shielded with magnetic glue reducing buzz noise in ultra-low levels / <br> / <br> Operating Temperature: –40 °C to +125 °C / <br> / <br> / <br><b> Applications / <br> / <br></b> Integrated DC/DC Converters / <br> / <br> Switching controllers which required high efficiency / <br> / <br> Portable power (Smartphones, digital cameras, Tablets, etc.) / <br> / <br> Embedded laptops and PCs / <br> / <br> Big sizes (5040, 60xx, 8040) used for shock-proof circuits / <br> / <br> / <br> / <br><a href="http://katalog.we-online.de/media/images/eisos/IndLQS_pf2.jpg" title="Enlarge picture"> / <img src="http://katalog.we-online.de/media/thumbs2/eisos/thb_IndLQS_pf2.jpg" width="320"></a><p> / Details see: <a href="http://katalog.we-online.de/en/pbs/WE-LQS">http://katalog.we-online.de/en/pbs/WE-LQS</a><p> / Created  by  Dan Xu 2014-05-21<br> / 2014 (C) Wurth Elektronik
footprint WE-LQS_3015
pins: 1, 2

## WE-LQS_4012
designator L?, comment <b>SMD Shielded Tiny Power Inductor / <br> / <br> / <br><b> Characteristics / <br> / <br></b></b> Tiny Power Inductor design / <br> / <br> 1.7 times more current in comparison with unshielded versions / <br> / <br> Robust design & high durability / <br> / <br> Low RDC / <br> / <br> Magnetically shielded with magnetic glue reducing buzz noise in ultra-low levels / <br> / <br> Operating Temperature: –40 °C to +125 °C / <br> / <br> / <br><b> Applications / <br> / <br></b> Integrated DC/DC Converters / <br> / <br> Switching controllers which required high efficiency / <br> / <br> Portable power (Smartphones, digital cameras, Tablets, etc.) / <br> / <br> Embedded laptops and PCs / <br> / <br> Big sizes (5040, 60xx, 8040) used for shock-proof circuits / <br> / <br> / <br> / <br><a href="http://katalog.we-online.de/media/images/eisos/IndLQS_pf2.jpg" title="Enlarge picture"> / <img src="http://katalog.we-online.de/media/thumbs2/eisos/thb_IndLQS_pf2.jpg" width="320"></a><p> / Details see: <a href="http://katalog.we-online.de/en/pbs/WE-LQS">http://katalog.we-online.de/en/pbs/WE-LQS</a><p> / Created  by  Dan Xu 2014-05-21<br> / 2014 (C) Wurth Elektronik
footprint WE-LQS_4012
pins: 1, 2

## WE-LQS_4018
designator L?, comment <b>SMD Shielded Tiny Power Inductor / <br> / <br> / <br><b> Characteristics / <br> / <br></b></b> Tiny Power Inductor design / <br> / <br> 1.7 times more current in comparison with unshielded versions / <br> / <br> Robust design & high durability / <br> / <br> Low RDC / <br> / <br> Magnetically shielded with magnetic glue reducing buzz noise in ultra-low levels / <br> / <br> Operating Temperature: –40 °C to +125 °C / <br> / <br> / <br><b> Applications / <br> / <br></b> Integrated DC/DC Converters / <br> / <br> Switching controllers which required high efficiency / <br> / <br> Portable power (Smartphones, digital cameras, Tablets, etc.) / <br> / <br> Embedded laptops and PCs / <br> / <br> Big sizes (5040, 60xx, 8040) used for shock-proof circuits / <br> / <br> / <br> / <br><a href="http://katalog.we-online.de/media/images/eisos/IndLQS_pf2.jpg" title="Enlarge picture"> / <img src="http://katalog.we-online.de/media/thumbs2/eisos/thb_IndLQS_pf2.jpg" width="320"></a><p> / Details see: <a href="http://katalog.we-online.de/en/pbs/WE-LQS">http://katalog.we-online.de/en/pbs/WE-LQS</a><p> / Created  by  Dan Xu 2014-05-21<br> / 2014 (C) Wurth Elektronik
footprint WE-LQS_4018
pins: 1, 2

## WE-LQS_5020
designator L?, comment <b>SMD Shielded Tiny Power Inductor / <br> / <br> / <br><b> Characteristics / <br> / <br></b></b> Tiny Power Inductor design / <br> / <br> 1.7 times more current in comparison with unshielded versions / <br> / <br> Robust design & high durability / <br> / <br> Low RDC / <br> / <br> Magnetically shielded with magnetic glue reducing buzz noise in ultra-low levels / <br> / <br> Operating Temperature: –40 °C to +125 °C / <br> / <br> / <br><b> Applications / <br> / <br></b> Integrated DC/DC Converters / <br> / <br> Switching controllers which required high efficiency / <br> / <br> Portable power (Smartphones, digital cameras, Tablets, etc.) / <br> / <br> Embedded laptops and PCs / <br> / <br> Big sizes (5040, 60xx, 8040) used for shock-proof circuits / <br> / <br> / <br> / <br><a href="http://katalog.we-online.de/media/images/eisos/IndLQS_pf2.jpg" title="Enlarge picture"> / <img src="http://katalog.we-online.de/media/thumbs2/eisos/thb_IndLQS_pf2.jpg" width="320"></a><p> / Details see: <a href="http://katalog.we-online.de/en/pbs/WE-LQS">http://katalog.we-online.de/en/pbs/WE-LQS</a><p> / Created  by  Dan Xu 2014-05-21<br> / 2014 (C) Wurth Elektronik
footprint WE-LQS_5020
pins: 1, 2

## WE-LQS_5040
designator L?, comment <b>SMD Shielded Tiny Power Inductor / <br> / <br> / <br><b> Characteristics / <br> / <br></b></b> Tiny Power Inductor design / <br> / <br> 1.7 times more current in comparison with unshielded versions / <br> / <br> Robust design & high durability / <br> / <br> Low RDC / <br> / <br> Magnetically shielded with magnetic glue reducing buzz noise in ultra-low levels / <br> / <br> Operating Temperature: –40 °C to +125 °C / <br> / <br> / <br><b> Applications / <br> / <br></b> Integrated DC/DC Converters / <br> / <br> Switching controllers which required high efficiency / <br> / <br> Portable power (Smartphones, digital cameras, Tablets, etc.) / <br> / <br> Embedded laptops and PCs / <br> / <br> Big sizes (5040, 60xx, 8040) used for shock-proof circuits / <br> / <br> / <br> / <br><a href="http://katalog.we-online.de/media/images/eisos/IndLQS_pf2.jpg" title="Enlarge picture"> / <img src="http://katalog.we-online.de/media/thumbs2/eisos/thb_IndLQS_pf2.jpg" width="320"></a><p> / Details see: <a href="http://katalog.we-online.de/en/pbs/WE-LQS">http://katalog.we-online.de/en/pbs/WE-LQS</a><p> / Created  by  Dan Xu 2014-05-21<br> / 2014 (C) Wurth Elektronik
footprint WE-LQS_5040
pins: 1, 2

## WE-LQS_6028
designator L?, comment <b>SMD Shielded Tiny Power Inductor / <br> / <br> / <br><b> Characteristics / <br> / <br></b></b> Tiny Power Inductor design / <br> / <br> 1.7 times more current in comparison with unshielded versions / <br> / <br> Robust design & high durability / <br> / <br> Low RDC / <br> / <br> Magnetically shielded with magnetic glue reducing buzz noise in ultra-low levels / <br> / <br> Operating Temperature: –40 °C to +125 °C / <br> / <br> / <br><b> Applications / <br> / <br></b> Integrated DC/DC Converters / <br> / <br> Switching controllers which required high efficiency / <br> / <br> Portable power (Smartphones, digital cameras, Tablets, etc.) / <br> / <br> Embedded laptops and PCs / <br> / <br> Big sizes (5040, 60xx, 8040) used for shock-proof circuits / <br> / <br> / <br> / <br><a href="http://katalog.we-online.de/media/images/eisos/IndLQS_pf2.jpg" title="Enlarge picture"> / <img src="http://katalog.we-online.de/media/thumbs2/eisos/thb_IndLQS_pf2.jpg" width="320"></a><p> / Details see: <a href="http://katalog.we-online.de/en/pbs/WE-LQS">http://katalog.we-online.de/en/pbs/WE-LQS</a><p> / Created  by  Dan Xu 2014-05-21<br> / 2014 (C) Wurth Elektronik
footprint WE-LQS_6028
pins: 1, 2